# Altium schematic symbol library B6B-ZR(LF)(SN).SchLib: 4 symbols
Pins are listed as number, name and electrical type; pins without a type are passive.

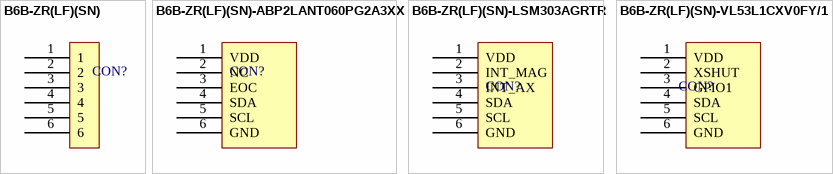
[diagram p0: symbols B6B-ZR(LF)(SN) to B6B-ZR(LF)(SN)-VL53L1CXV0FY/1]

## B6B-ZR(LF)(SN)
designator CON?  (value not drawn)
footprint B6B-ZR(LF)(SN)
pins: 1, 2, 3, 4, 5, 6

## B6B-ZR(LF)(SN)-ABP2LANT060PG2A3XX
designator CON?  (value not drawn)
footprint B6B-ZR(LF)(SN)
pins: 1 VDD, 2 NC, 3 EOC, 4 SDA, 5 SCL, 6 GND

## B6B-ZR(LF)(SN)-LSM303AGRTR
designator CON?  (value not drawn)
footprint B6B-ZR(LF)(SN)
pins: 1 VDD, 2 INT_MAG, 3 INT_AX, 4 SDA, 5 SCL, 6 GND

## B6B-ZR(LF)(SN)-VL53L1CXV0FY/1
designator CON?  (value not drawn)
footprint B6B-ZR(LF)(SN)
pins: 1 VDD, 2 XSHUT, 3 GPIO1, 4 SDA, 5 SCL, 6 GND